# Altium integrated library HONEYWELL_Sensors.IntLib: 1 symbol
Pins are listed as number, name and electrical type; pins without a type are passive.

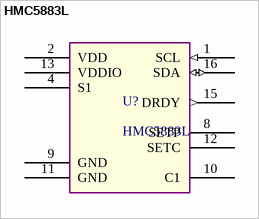
[diagram p0: symbol HMC5883L]

## HMC5883L
designator U?
3-Axis Digital Compass IC; Supplier 1: Newark; Supplier Part Number 1: 44T9655
footprint PQFN50P30X30X90-16 (IPC-7351C HMC5883L)
pins: 1 SCL (in) "Serial Clock – I2C Master/Slave Clock", 2 VDD (power) "Power Supply (2.16V to 3.6V)", 3 NC hidden "Not to be Connected", 4 S1 "Tie to VDDIO", 5 NC hidden "Not to be Connected", 6 NC hidden "Not to be Connected", 7 NC hidden "Not to be Connected", 8 SETP "Set/Reset Strap Positive – S/R Capacitor (C2) Connection", 9 GND (power) "Supply Ground", 10 C1 "Reservoir Capacitor (C1) Connection", 11 GND (power) "Supply Ground", 12 SETC "S/R Capacitor (C2) Connection – Driver Side", 13 VDDIO (power) "IO Power Supply (1.71V to VDD)", 14 NC hidden "Not to be Connected", 15 DRDY (out) "Data Ready, Interrupt Pin. Internally pulled high. Optional connection. Low for 250 μsec when data is placed in the data output registers", 16 SDA (io) "Serial Data – I2C Master/Slave Data"